# Altium footprint library 集成块.PcbLib: 98 footprints (part 2 of 7)
Each footprint in its own frame and in the unit in brackets; x right, y up, seen from the top. Pads: shape width x height; smd on the part's side, far side on the other; paste and mask are expansions set on the pad; w line width, h text height; cw(c..) or ccw(c..) is an arc to the next point about the centre after c.
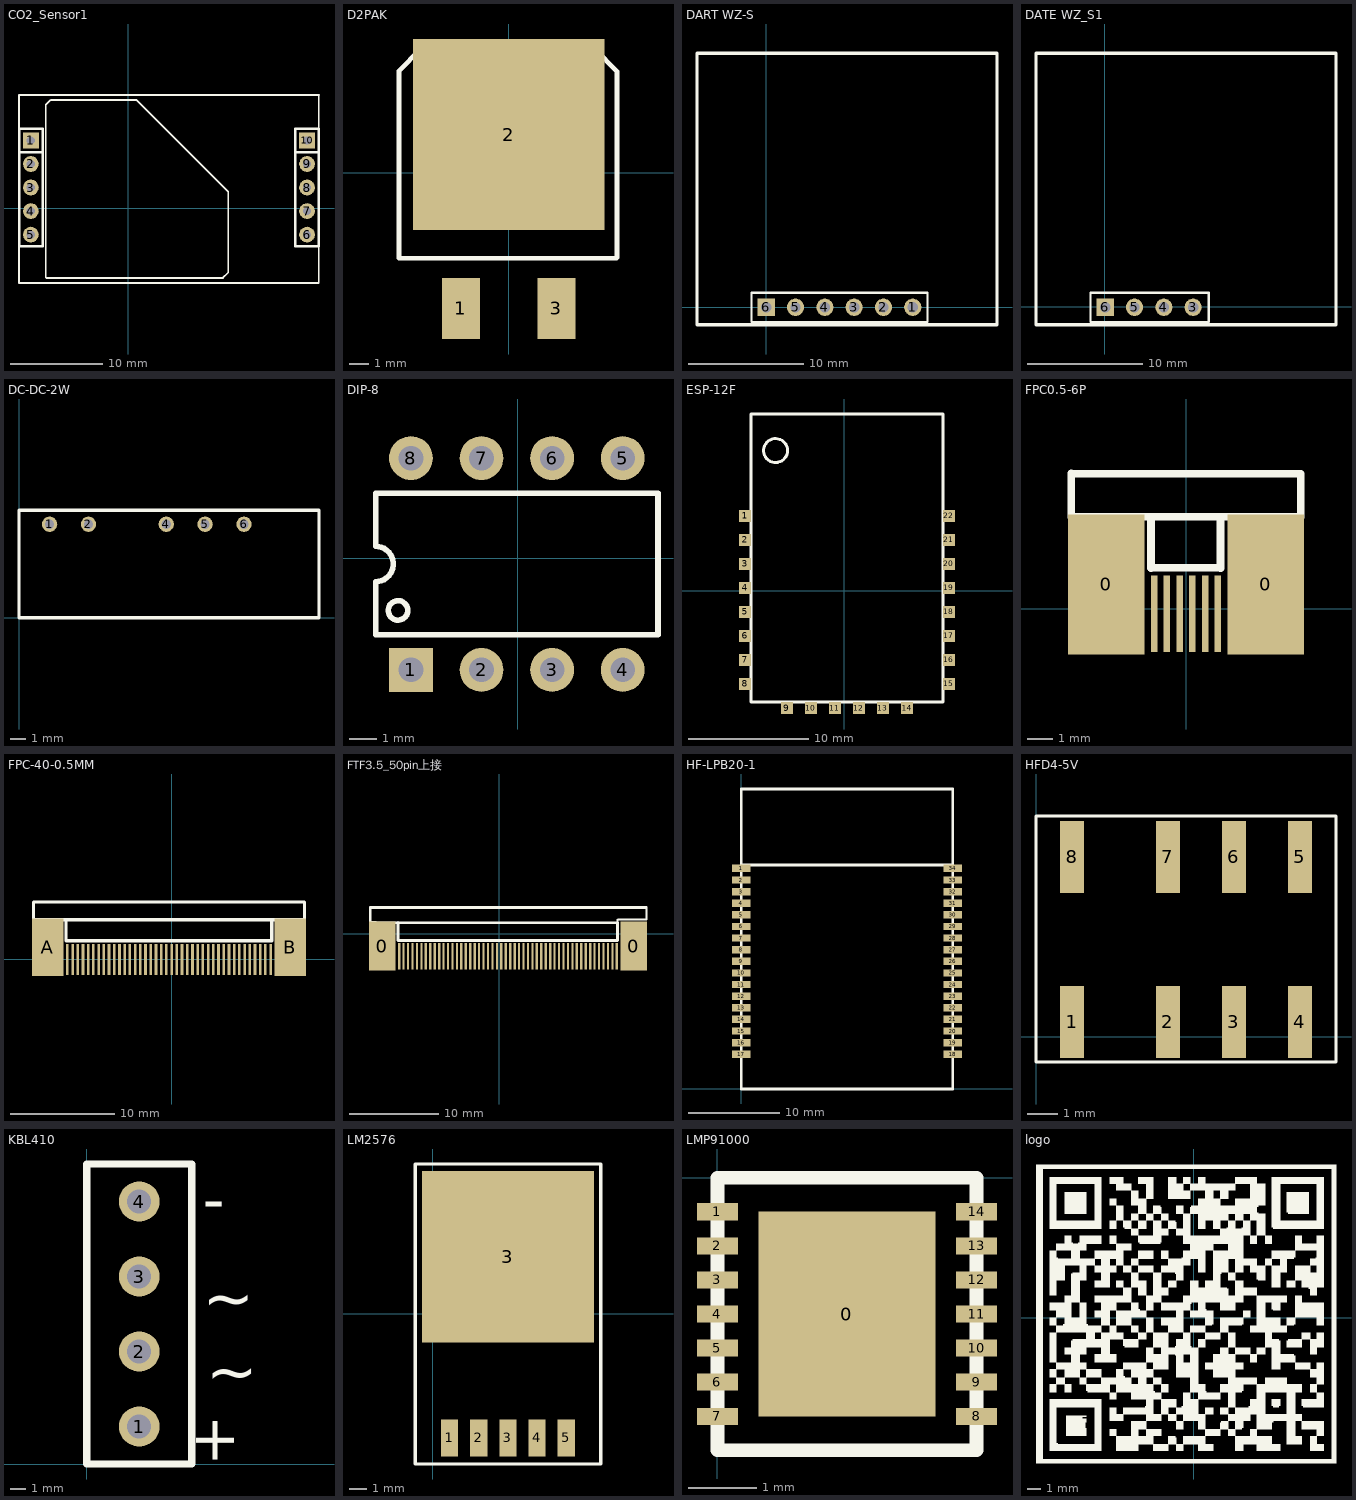
[diagram p1: the footprints below, top view; thin cyan lines are the x and y axes]

## CO2_Sensor1 [mm]
pads (10):
  rect 1.7x1.7 hole 0.9: 1(-10.49,7.29) 10(19.31,7.29)
  round 1.7 hole 0.9: 2(-10.49,4.75) 3(-10.49,2.21) 4(-10.49,-0.33) 5(-10.49,-2.87) 6(19.31,-2.87) 7(19.31,-0.33) 8(19.31,2.21) 9(19.31,4.75)
Top Overlay:
  lines w0.2: -8.42,11.62 -8.89,11.151 -8.89,-7.48 -8.826,-7.544 10.223,-7.544 10.808,-6.96 10.808,1.753 0.902,11.659 -8.331,11.659 ; 20.567,-8.077 -11.773,-8.077 -11.773,12.179 20.599,12.179 20.58,12.16 20.58,-8.077
  lines w0.254: -11.76,6.02 -9.22,6.02 ; 18.04,6.02 20.58,6.02 ; -11.76,-4.14 -11.76,8.56 -9.22,8.56 -9.22,-4.14 -11.76,-4.14 ; 18.04,-4.14 18.04,8.56 20.58,8.56 20.58,-4.14 18.04,-4.14

## D2PAK [mm]
pads (3):
  rect 2x3.2 smd: 1(-2.5,-7.1) 3(2.5,-7.1)
  rect 10x10 smd: 2(0,2)
Top Overlay:
  lines w0.25: -5.74,-4.47 -5.74,5.334 -4.623,6.452 4.521,6.452 5.664,5.309 5.664,-3.683 5.664,-4.445 5.639,-4.47 -5.74,-4.47

## DART WZ-S [mm]
pads (6):
  round 1.5 hole 0.9: 1(12.7,0) 2(10.16,0) 3(7.62,0) 4(5.08,0) 5(2.54,0)
  rect 1.5x1.5 hole 0.9: 6(0,0)
Top Overlay:
  lines w0.2: -1.27,-1.27 -1.27,1.27 13.97,1.27 13.97,-1.27 -1.27,-1.27
  lines w0.3: -6,-1.5 -6,22 20,22 20,-1.5 -6,-1.5

## DATE WZ_S1 [mm]
pads (4):
  round 1.5 hole 0.9: 3(7.671,-0.051) 4(5.131,-0.051) 5(2.591,-0.051)
  rect 1.5x1.5 hole 0.9: 6(0.051,-0.051)
Top Overlay:
  lines w0.2: -1.219,-1.321 -1.219,1.219 9.017,1.219 9.017,-1.321 -1.219,-1.321
  lines w0.3: -5.949,-1.551 -5.949,21.949 20.051,21.949 20.051,-1.551 -5.949,-1.551

## DC-DC-2W [mm]
pads (5):
  round 1 hole 0.6 unplated: 1(2,6.1) 2(4.54,6.1) 4(9.62,6.1) 5(12.16,6.1) 6(14.7,6.1)
Top Overlay:
  lines w0.22: 19.6,6.991 19.6,0 0,0 0,7 19.6,7

## DIP-8 [mil]
pads (8):
  rect 62x62 hole 35: 1(-151,-158)
  round 62 hole 35: 2(-51,-158) 3(49,-158) 4(149,-158) 5(149,142) 6(49,142) 7(-51,142) 8(-151,142)
Top Overlay:
  circle w7.87: c-169.31,-73.71 r13.78
  lines w7.87: -201,-108 199,-108 199,92 -201,92 -201,17 cw(c-201,-8) -201,-33 -201,-108

## ESP-12F [mm]
pads (22):
  rect 1x1 smd: 1(-8.272,6.229) 2(-8.272,4.229) 3(-8.272,2.229) 4(-8.272,0.229) 5(-8.272,-1.771) 6(-8.272,-3.771) 7(-8.272,-5.771) 8(-8.272,-7.771) 9(-4.772,-9.771) 10(-2.772,-9.771) 11(-0.772,-9.771) 12(1.228,-9.771) 13(3.228,-9.771) 14(5.228,-9.771) 15(8.728,-7.771) 16(8.728,-5.771) 17(8.728,-3.771) 18(8.728,-1.771) 19(8.728,0.229) 20(8.728,2.229) 21(8.728,4.229) 22(8.728,6.229)
Top Overlay:
  circle w0.254: c-5.724,11.684 r1
  lines w0.254: -7.772,-9.271 -7.772,14.729 8.228,14.729 8.228,-9.271 -7.772,-9.271

## FPC0.5-6P [mm]
pads (8):
  rect 3x5.5 smd: 0(-3.149,0.956) 0(3.125,0.956)
  rect 0.25x3 smd: 1(1.238,-0.203) 2(0.738,-0.203) 3(0.238,-0.203) 4(-0.262,-0.203) 5(-0.762,-0.203) 6(-1.262,-0.203)
Top Overlay:
  lines w0.3: -4.512,5.301 4.483,5.301 ; -3.887,3.601 3.883,3.601 ; -1.387,1.601 1.336,1.601
  lines w0.305: -4.512,3.601 -4.512,5.301 ; -4.487,3.601 -3.887,3.601 ; -1.387,1.601 -1.387,3.607 ; 1.347,1.591 1.347,3.597 ; 3.888,3.597 4.488,3.597 4.488,5.297

## FPC-40-0.5MM [mm]
pads (42):
  rect 0.25x3 smd: 1(-10,0) 2(-9.5,0) 3(-9,0) 4(-8.5,0) 5(-8,0) 6(-7.5,0) 7(-7,0) 8(-6.5,0) 9(-6,0) 10(-5.5,0) 11(-5,0) 12(-4.5,0) 13(-4,0) 14(-3.5,0) 15(-3,0) 16(-2.5,0) 17(-2,0) 18(-1.5,0) 19(-1,0) 20(-0.5,0) 21(0,0) 22(0.5,0) 23(1,0) 24(1.5,0) 25(2,0) 26(2.5,0) 27(3,0) 28(3.5,0) 29(4,0) 30(4.5,0) 31(5,0) 32(5.5,0) 33(6,0) 34(6.5,0) 35(7,0) 36(7.5,0) 37(8,0) 38(8.5,0) 39(9,0) 40(9.5,0)
  rect 3x5.5 smd: A(-11.887,1.159) B(11.387,1.159)
Top Overlay:
  lines w0.305: -13.25,3.804 -13.25,5.504 ; -13.25,5.5 12.75,5.5 12.75,3.8 12.15,3.8 -12.65,3.8 ; -13.225,3.804 -12.625,3.804 ; -10.125,1.804 -10.125,3.81 ; -10.109,1.794 9.609,1.794 9.609,3.8

## FTF3.5_50pin上接 [mm]
pads (52):
  rect 3x5.5 smd: 0(-13.157,-1.381) 0(15.121,-1.381)
  rect 0.25x3 smd: 1(13.234,-2.54) 2(12.734,-2.54) 3(12.234,-2.54) 4(11.734,-2.54) 5(11.234,-2.54) 6(10.734,-2.54) 7(10.234,-2.54) 8(9.734,-2.54) 9(9.234,-2.54) 10(8.734,-2.54) 11(8.23,-2.54) 12(7.73,-2.54) 13(7.23,-2.54) 14(6.73,-2.54) 15(6.23,-2.54) 16(5.73,-2.54) 17(5.23,-2.54) 18(4.73,-2.54) 19(4.23,-2.54) 20(3.73,-2.54) 21(3.23,-2.54) 22(2.73,-2.54) 23(2.23,-2.54) 24(1.73,-2.54) 25(1.23,-2.54) 26(0.73,-2.54) 27(0.23,-2.54) 28(-0.27,-2.54) 29(-0.77,-2.54) 30(-1.27,-2.54) 31(-1.77,-2.54) 32(-2.27,-2.54) 33(-2.77,-2.54) 34(-3.27,-2.54) 35(-3.77,-2.54) 36(-4.27,-2.54) 37(-4.77,-2.54) 38(-5.27,-2.54) 39(-5.77,-2.54) 40(-6.27,-2.54) 41(-6.77,-2.54) 42(-7.27,-2.54) 43(-7.77,-2.54) 44(-8.27,-2.54) 45(-8.77,-2.54) 46(-9.27,-2.54) 47(-9.77,-2.54) 48(-10.27,-2.54) 49(-10.77,-2.54) 50(-11.27,-2.54)
Top Overlay:
  lines w0.25: 13.31,1.26 13.31,1.549 13.386,1.626 16.561,1.626 16.561,2.96
  lines w0.305: -14.52,1.264 -14.52,2.964 ; -14.52,2.96 16.561,2.96 ; -14.495,1.264 -13.895,1.264 ; -13.92,1.26 13.31,1.26 13.31,-0.746 -11.379,-0.746 ; -11.395,-0.736 -11.395,1.27

## HF-LPB20-1 [mm]
pads (34):
  rect 2x0.8 smd: 1(0,24.12) 2(0,22.85) 3(0,21.58) 4(0,20.31) 5(0,19.04) 6(0,17.77) 7(0,16.5) 8(0,15.23) 9(0,13.96) 10(0,12.69) 11(0,11.42) 12(0,10.15) 13(0,8.88) 14(0,7.61) 15(0,6.34) 16(0,5.07) 17(0,3.8) 18(23.1,3.8) 19(23.1,5.07) 20(23.1,6.34) 21(23.1,7.61) 22(23.1,8.88) 23(23.1,10.15) 24(23.1,11.42) 25(23.1,12.69) 26(23.1,13.96) 27(23.1,15.23) 28(23.1,16.5) 29(23.1,17.77) 30(23.1,19.04) 31(23.1,20.31) 32(23.1,21.58) 33(23.1,22.85) 34(23.1,24.12)
Top Overlay:
  lines w0.3: 0,24.5 23.075,24.5 ; 0,0 23.1,0 23.1,32.8 0,32.8 0,0

## HFD4-5V [mm]
pads (8):
  rect 0.8x2.4 smd: 1(1.2,0.5) 2(4.4,0.5) 3(6.6,0.5) 4(8.8,0.5) 5(8.8,6) 6(6.6,6) 7(4.4,6) 8(1.2,6)
Top Overlay:
  lines w0.1: 0,-0.838 10,-0.838 10,7.366 0,7.366 0,-0.838

## KBL410 [mm]
pads (4):
  round 2.7 hole 1.6: 1(3.5,2.5) 2(3.5,7.5) 3(3.5,12.5) 4(3.5,17.5)
Top Overlay:
  lines w0.5: 0,0 0,20 7,20 7,0 0,0
  text "+" at 7.315,3.277 h3
  text "-" at 7.747,16.18 h3
  text "~" at 7.747,9.601 h3
  text "~" at 7.976,4.724 h3

## LM2576 [mm]
pads (6):
  rect 1x2.16 smd: 1(0.984,-7.239) 2(2.684,-7.239) 3(4.384,-7.239) 4(6.084,-7.239) 5(7.784,-7.239)
  rect 10x10 smd: 3(4.384,3.311)
Top Overlay:
  lines w0.2: -1.012,-1.636 -1.012,8.714 9.788,8.714 9.788,-1.696
  lines w0.203: -1.012,-1.636 -1.012,-8.761 9.788,-8.761 9.788,-1.696

## LMP91000 [mm]
pads (15):
  rect 2.6x3 smd: 0(1.9,-2)
  rect 0.6x0.25 smd: 1(0,-0.5) 2(0,-1) 3(0,-1.5) 4(0,-2) 5(0,-2.5) 6(0,-3) 7(0,-3.5) 8(3.8,-3.5) 9(3.8,-3) 10(3.8,-2.5) 11(3.8,-2) 12(3.8,-1.5) 13(3.8,-1) 14(3.8,-0.5)
Top Overlay:
  lines w0.2: 0,-4 0,0 3.8,0 3.8,-4 0,-4

## logo [mm]
Top Overlay:
  drawing of 2348 lines, arcs and shapes, not listed